# Altium footprint library Senior-Design-Custom.PcbLib: 58 footprints (part 1 of 4)
Each footprint in its own frame and in the unit in brackets; x right, y up, seen from the top. Pads: shape width x height; smd on the part's side, far side on the other; paste and mask are expansions set on the pad; w line width, h text height; cw(c..) or ccw(c..) is an arc to the next point about the centre after c.
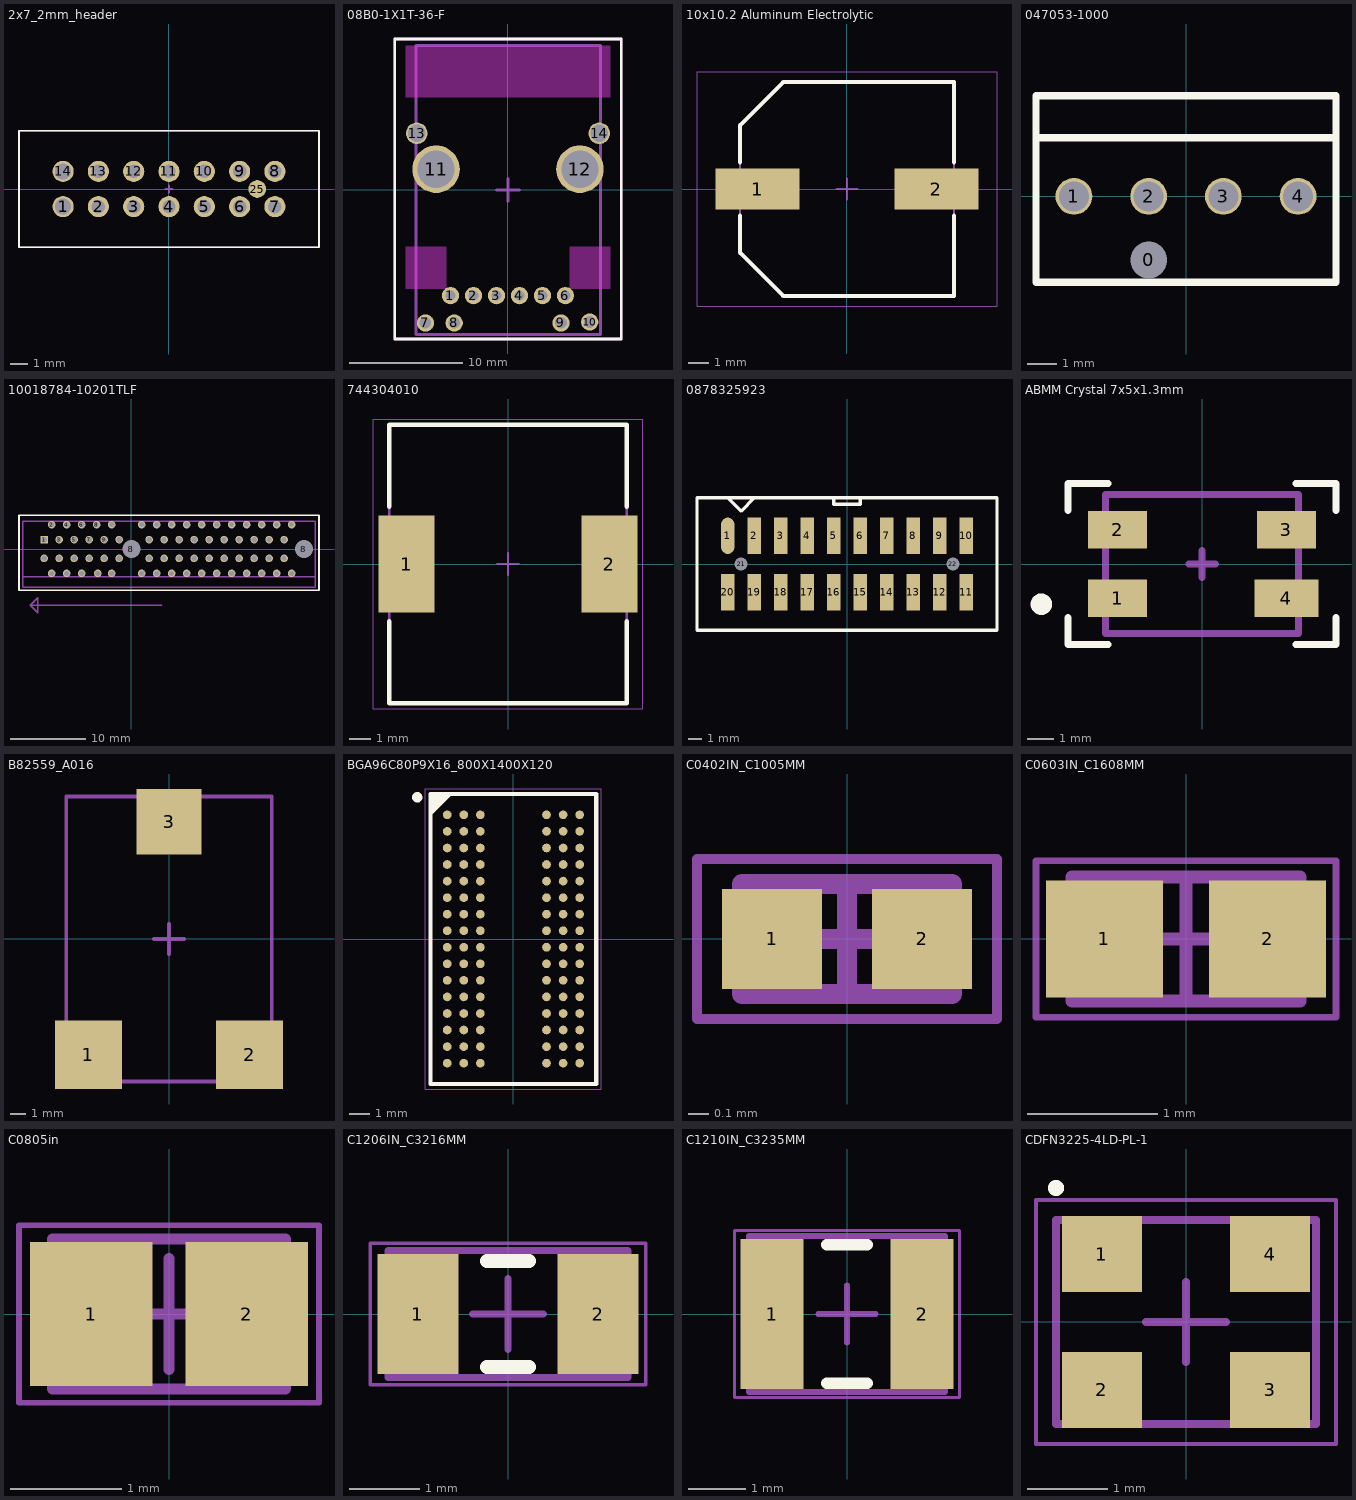
[diagram p0: the footprints below, top view; thin cyan lines are the x and y axes]

## 2x7_2mm_header [mm] "2 by 7, 2mm pitch 14 pin header"
pads (15):
  round 1.2 hole 0.9: 1(-6,-1) 14(-6,1)
  round 1.2 hole 0.762: 2(-4,-1) 3(-2,-1) 4(0,-1) 5(2,-1) 6(4,-1) 7(6,-1) 8(6,1) 9(4,1) 10(2,1) 11(0,1) 12(-2,1) 13(-4,1)
  round 1 all layers, no hole paste-5 mask-5: 25(5,0)
Top Overlay:
  lines w0.1: -8.5,-3.3 8.5,-3.3 8.5,3.3 -8.5,3.3 -8.5,-3.3
Mechanical 1:
  lines w0.1: -8.5,-3.3 8.5,-3.3 8.5,3.3 -8.5,3.3 -8.5,-3.3
Mechanical 15:
  lines w0.1: -0.2,0 0.2,0 ; 0,-0.2 0,0.2 ; -8.5,-3.3 8.5,-3.3 8.5,3.3 -8.5,3.3 -8.5,-3.3
3D body "878311411.stp": height 6.35, standoff -3.55, extent -8.325,-3.15 8.325,3.15

## 08B0-1X1T-36-F [mm] "100Base-T RJ45 ethernet jack"
pads (14):
  round 1.524 hole 0.89: 1(-5.08,-9.335) 2(-3.05,-9.335) 3(-1.02,-9.335) 4(1.01,-9.335) 5(3.04,-9.335) 6(5.07,-9.335)
  round 1.524 hole 1.02: 7(-7.29,-11.745) 8(-4.75,-11.745) 9(4.68,-11.745) 10(7.22,-11.665)
  round 4.2 hole 3.28: 11(-6.35,1.835) 12(6.35,1.835)
  round 1.9 hole 1.57: 13(-8.06,5.005) 14(8.06,5.005)
Top Layer keep-out:
  region: 9.015,12.755 -9.015,12.755 -9.015,8.185 9.015,8.185
  region: 5.46,-5.025 9.015,-5.025 9.015,-8.705 5.46,-8.705
  region: -9.015,-5.025 -5.46,-5.025 -5.46,-8.705 -9.015,-8.705
Top Overlay:
  lines w0.254: -10,-13.165 -10,13.335 10,13.335 10,-13.165 -10,-13.165
Mechanical 1:
  lines w0.254: -8.115,-12.765 8.155,-12.765 8.155,12.765 -8.115,12.765 -8.115,-12.765
Mechanical 15:
  lines w0.254: -1,0 1,0 ; 0,-1 0,1 ; -10,-13.165 10,-13.165 10,13.335 -10,13.335 -10,-13.165

## 10x10.2 Aluminum Electrolytic [mm] "Aluminum Electrolytic Capacitor, Body 10.25x10.25x10.80mm, IPC Medium Density"
height 10.8
pads (2):
  rect 4.1x2 smd: 1(-4.35,0) 2(4.35,0)
Top Overlay:
  lines w0.2: -5.2,-1.3 -5.2,-3.1 -3.1,-5.2 5.2,-5.2 5.2,-1.3 ; -5.2,1.3 -5.2,3.1 -3.1,5.2 5.2,5.2 5.2,1.3
Mechanical 13:
  lines w0.1: -5.2,-3.1 -5.2,3.1 -3.1,5.2 5.2,5.2 5.2,-5.2 -3.1,-5.2 -5.2,-3.1
Mechanical 15:
  lines w0.05: -7.3,-5.7 7.3,-5.7 7.3,5.7 -7.3,5.7 -7.3,-5.7
  lines w0.1: -0.5,0 0.5,0 ; 0,-0.5 0,0.5
3D body "10x10.2 Aluminum Electrolytic.step": height 10.8, standoff 0, extent -6,-5.2 6,5.2

## 047053-1000 [mm] "4 pin header for PC fans"
pads (5):
  round 1 hole 1.25: 0(-1.27,-2.16)
  round 1.25 hole 1.02: 1(-3.81,0) 2(-1.27,0) 3(1.27,0) 4(3.81,0)
Top Overlay:
  lines w0.254: -5.1,2 5.1,2 ; -5.1,-2.92 5.1,-2.92 5.1,2.92 5.1,3.42 2.55,3.42 -2.55,3.42 -5.1,3.42 -5.1,2.92 -5.1,-2.92
3D body "470531000.stp": height 11, standoff -2.5, extent -5.1,-2.54 5.1,3.3

## 10018784-10201TLF [mm] "PCIe 4x"
pads (66):
  rect 1x1 hole 0.7: 1(-11.65,1.25)
  round 1 hole 0.7: 2(-10.65,3.25) 3(-9.65,1.25) 4(-8.65,3.25) 5(-7.65,1.25) 6(-6.65,3.25) 7(-5.65,1.25) 8(-4.65,3.25) 9(-3.65,1.25) 10(-2.65,3.25) 11(-1.65,1.25) 12(1.35,3.25) 13(2.35,1.25) 14(3.35,3.25) 15(4.35,1.25) 16(5.35,3.25) 17(6.35,1.25) 18(7.35,3.25) 19(8.35,1.25) 20(9.35,3.25) 21(10.35,1.25) 22(11.35,3.25) 23(12.35,1.25) 24(13.35,3.25) 25(14.35,1.25) 26(15.35,3.25) 27(16.35,1.25) 28(17.35,3.25) 29(18.35,1.25) 30(19.35,3.25) 31(20.35,1.25) 32(21.35,3.25) 33(21.35,-3.25) 34(20.35,-1.25) 35(19.35,-3.25) 36(18.35,-1.25) 37(17.35,-3.25) 38(16.35,-1.25) 39(15.35,-3.25) 40(14.35,-1.25) 41(13.35,-3.25) 42(12.35,-1.25) 43(11.35,-3.25) 44(10.35,-1.25) 45(9.35,-3.25) 46(8.35,-1.25) 47(7.35,-3.25) 48(6.35,-1.25) 49(5.35,-3.25) 50(4.35,-1.25) 51(3.35,-3.25) 52(2.35,-1.25) 53(1.35,-3.25) 54(-1.65,-1.25) 55(-2.65,-3.25) 56(-3.65,-1.25) 57(-4.5,-3.25) 58(-5.65,-1.25) 59(-6.65,-3.25) 60(-7.65,-1.25) 61(-8.65,-3.25) 62(-9.65,-1.25) 63(-10.65,-3.25) 64(-11.65,-1.25)
  round 1.524 hole 2.35: 8(0,0) 8(23,0)
Top Overlay:
  lines w0.254: -15,-5.5 -15,4.5 25,4.5 25,4 25,-5.5 -14.5,-5.5 -15,-5.5
Mechanical 15:
  lines w0.254: -14.5,-3.7 24.5,-3.7 ; 4,-7.5 -13.5,-7.5 ; -13.5,-7.5 -12.5,-6.5 -12.5,-8.5 -13.5,-7.5 ; -14.5,-5.1 -14.5,3.7 24.5,3.7 24.5,-5.1 -14.5,-5.1
  text "I/O PANEL DIRECTION" at -10,-9 h1.5
3D body "10018784-10201TLF.stp": height 11, standoff -4.4, extent -14.5,-5.1 24.5,3.7

## 744304010 [mm] "Molded Inductor, 2-Leads, Body 10.00x11.80mm, IPC Medium Density"
height 4
pads (2):
  rect 2.6x4.5 smd: 1(-4.7,0) 2(4.7,0)
Top Overlay:
  lines w0.2: -5.5,-2.65 -5.5,-6.45 5.5,-6.45 5.5,-2.65 ; -5.5,2.65 -5.5,6.45 5.5,6.45 5.5,2.65
Mechanical 13:
  lines w0.1: -5.5,-6.4 -5.5,6.4 5.5,6.4 5.5,-6.4 -5.5,-6.4
Mechanical 15:
  lines w0.05: -6.25,-6.7 -6.25,6.7 6.25,6.7 6.25,-6.7 -6.25,-6.7
  lines w0.1: -0.5,0 0.5,0 ; 0,-0.5 0,0.5
3D body "744304010.step": height 4, standoff 0, extent -5.72,-6.4 5.72,6.4

## 0878325923 [mm] "SMD 10x2 2mm pitch header"
pads (22):
  oval 1x2.75 smd: 1(-9,2.13)
  rect 1x2.75 smd: 2(-7,2.13) 3(-5,2.13) 4(-3,2.13) 5(-1,2.13) 6(1,2.13) 7(3,2.13) 8(5,2.13) 9(7,2.13) 10(9,2.13) 11(9,-2.13) 12(7,-2.13) 13(5,-2.13) 14(3,-2.13) 15(1,-2.13) 16(-1,-2.13) 17(-3,-2.13) 18(-5,-2.13) 19(-7,-2.13) 20(-9,-2.13)
  round 0.8 hole 1: 21(-8,0) 22(8,0)
Top Overlay:
  lines w0.254: -9,5 -8,4 ; -7,5 -8,4 ; -1,5 -1,4.5 1,4.5 1,5 ; -8,4 -8,4 ; -11.325,-5 11.325,-5 11.325,5 -11.325,5 -11.325,-5
3D body "878325923.stp": height 9.05, standoff -0.75, extent -11.325,-3.175 11.325,3.175

## ABMM Crystal 7x5x1.3mm [mm]
pads (4):
  rect 2.2x1.4 smd: 1(-3.15,-1.27) 2(-3.15,1.27) 3(3.15,1.27)
  rect 2.4x1.4 smd: 4(3.15,-1.27)
Top Overlay:
  circle w0.4: c-6,-1.5 r0.2
  lines w0.254: -5,-2 -5,-3 -3.5,-3 ; -5,2 -5,3 -3.5,3 ; 3.5,-3 5,-3 5,-2 ; 3.5,3 5,3 5,2
Mechanical 15:
  lines w0.254: -0.5,0 0.5,0 ; 0,-0.5 0,0.5 ; -3.6,-2.6 3.6,-2.6 3.6,2.6 -3.6,2.6 -3.6,-2.6
3D body "ABMM.STEP": height 1.3, standoff 0, extent -3.594,-2.5 3.594,2.707

## B82559_A016 [mm] "Shielded inductor"
height 9.95
pads (3):
  rect 4.4x4.5 smd: 1(-5.3,-7.6) 2(5.3,-7.6)
  rect 4.3x4.3 smd: 3(0,7.7)
Mechanical 15:
  lines w0.254: -1,0 1,0 ; 0,-1 0,1 ; -6.75,-9.35 6.75,-9.35 6.75,9.35 -6.75,9.35 -6.75,-9.35

## BGA96C80P9X16_800X1400X120 [mm] "BGA, 96-Leads, Body 8.00x14.00mmx1.20mm, Pitch 0.80mm"
height 1.2
pads (96):
  round 0.42 smd: A1(-3.2,6) A2(-2.4,6) A3(-1.6,6) A7(1.6,6) A8(2.4,6) A9(3.2,6) B1(-3.2,5.2) B2(-2.4,5.2) B3(-1.6,5.2) B7(1.6,5.2) B8(2.4,5.2) B9(3.2,5.2) C1(-3.2,4.4) C2(-2.4,4.4) C3(-1.6,4.4) C7(1.6,4.4) C8(2.4,4.4) C9(3.2,4.4) D1(-3.2,3.6) D2(-2.4,3.6) D3(-1.6,3.6) D7(1.6,3.6) D8(2.4,3.6) D9(3.2,3.6) E1(-3.2,2.8) E2(-2.4,2.8) E3(-1.6,2.8) E7(1.6,2.8) E8(2.4,2.8) E9(3.2,2.8) F1(-3.2,2) F2(-2.4,2) F3(-1.6,2) F7(1.6,2) F8(2.4,2) F9(3.2,2) G1(-3.2,1.2) G2(-2.4,1.2) G3(-1.6,1.2) G7(1.6,1.2) G8(2.4,1.2) G9(3.2,1.2) H1(-3.2,0.4) H2(-2.4,0.4) H3(-1.6,0.4) H7(1.6,0.4) H8(2.4,0.4) H9(3.2,0.4) J1(-3.2,-0.4) J2(-2.4,-0.4) J3(-1.6,-0.4) J7(1.6,-0.4) J8(2.4,-0.4) J9(3.2,-0.4) K1(-3.2,-1.2) K2(-2.4,-1.2) K3(-1.6,-1.2) K7(1.6,-1.2) K8(2.4,-1.2) K9(3.2,-1.2) L1(-3.2,-2) L2(-2.4,-2) L3(-1.6,-2) L7(1.6,-2) L8(2.4,-2) L9(3.2,-2) M1(-3.2,-2.8) M2(-2.4,-2.8) M3(-1.6,-2.8) M7(1.6,-2.8) M8(2.4,-2.8) M9(3.2,-2.8) N1(-3.2,-3.6) N2(-2.4,-3.6) N3(-1.6,-3.6) N7(1.6,-3.6) N8(2.4,-3.6) N9(3.2,-3.6) P1(-3.2,-4.4) P2(-2.4,-4.4) P3(-1.6,-4.4) P7(1.6,-4.4) P8(2.4,-4.4) P9(3.2,-4.4) R1(-3.2,-5.2) R2(-2.4,-5.2) R3(-1.6,-5.2) R7(1.6,-5.2) R8(2.4,-5.2) R9(3.2,-5.2) T1(-3.2,-6) T2(-2.4,-6) T3(-1.6,-6) T7(1.6,-6) T8(2.4,-6) T9(3.2,-6)
Top Overlay:
  circle w0.25: c-4.65,6.85 r0.125
  region: -3.063,7 -4,6.063 -4,7
  lines w0.2: -4,6.063 -3.063,7 ; -4,-7 4,-7 4,7 -4,7 -4,-7
Mechanical 13:
  lines w0.1: -4,-7 4,-7 4,7 -4,7 -4,-7
Mechanical 15:
  lines w0.05: -4.25,-7.25 4.25,-7.25 4.25,7.25 -4.25,7.25 -4.25,-7.25
3D body: height 1.2, standoff 0.34, extent -4,-7 4,7

## C0402IN_C1005MM [mm]
height 0.55
pads (2):
  rect 0.5x0.5 smd: 1(-0.375,0) 2(0.375,0)
Mechanical 13:
  lines w0.1: -0.525,-0.275 0.525,-0.275 0.525,0.275 -0.525,0.275 -0.525,-0.275
Mechanical 15:
  lines w0.05: -0.75,-0.4 0.75,-0.4 0.75,0.4 -0.75,0.4 -0.75,-0.4
  lines w0.1: -0.275,0 0.275,0 ; 0,-0.275 0,0.275
3D body: height 0.55, standoff 0, extent 0.295,-0.275 0.525,0.275
3D body: height 0.55, standoff 0, extent -0.525,-0.275 -0.295,0.275
3D body: height 0.55, standoff 0, extent -0.295,-0.275 0.295,0.275

## C0603IN_C1608MM [mm]
height 0.95
pads (2):
  rect 0.9x0.9 smd: 1(-0.625,0) 2(0.625,0)
Mechanical 13:
  lines w0.1: -0.875,-0.475 -0.875,0.475 0.875,0.475 0.875,-0.475 -0.875,-0.475
Mechanical 15:
  lines w0.05: -1.15,-0.6 -1.15,0.6 1.15,0.6 1.15,-0.6 -1.15,-0.6
  lines w0.1: -0.475,0 0.475,0 ; 0,-0.475 0,0.475
3D body: height 0.95, standoff 0, extent -0.525,-0.475 0.525,0.475
3D body: height 0.95, standoff 0, extent -0.875,-0.475 -0.525,0.475
3D body: height 0.95, standoff 0, extent 0.525,-0.475 0.875,0.475

## C0805in [mm]
height 0.75
pads (2):
  rect 1.1x1.3 smd: 1(-0.7,0) 2(0.7,0)
Mechanical 13:
  lines w0.1: -1.05,-0.675 -1.05,0.675 1.05,0.675 1.05,-0.675 -1.05,-0.675
Mechanical 15:
  lines w0.05: -1.35,-0.8 -1.35,0.8 1.35,0.8 1.35,-0.8 -1.35,-0.8
  lines w0.1: -0.5,0 0.5,0 ; 0,-0.5 0,0.5
3D body "C0805in.step": height 0.75, standoff 0, extent -1.05,-0.675 1.05,0.675

## C1206IN_C3216MM [mm]
height 1.8
pads (2):
  rect 1.15x1.7 smd: 1(-1.275,0) 2(1.275,0)
Top Overlay:
  lines w0.2: -0.3,-0.75 0.3,-0.75 ; -0.3,0.75 0.3,0.75
Mechanical 13:
  lines w0.1: -1.7,-0.9 1.7,-0.9 1.7,0.9 -1.7,0.9 -1.7,-0.9
Mechanical 15:
  lines w0.05: -1.95,-1 1.95,-1 1.95,1 -1.95,1 -1.95,-1
  lines w0.1: -0.5,0 0.5,0 ; 0,-0.5 0,0.5
3D body: height 1.8, standoff 0, extent 1.15,-0.9 1.7,0.9
3D body: height 1.8, standoff 0, extent -1.7,-0.9 -1.15,0.9
3D body: height 1.8, standoff 0, extent -1.15,-0.9 1.15,0.9

## C1210IN_C3235MM [mm] "C1210IN_C3235MM 2.3mm height"
height 2.3
pads (2):
  rect 1.1x2.6 smd: 1(-1.3,0) 2(1.3,0)
Top Overlay:
  lines w0.2: -0.35,-1.2 0.35,-1.2 ; -0.35,1.2 0.35,1.2
Mechanical 13:
  lines w0.1: -1.7,-1.35 1.7,-1.35 1.7,1.35 -1.7,1.35 -1.7,-1.35
Mechanical 15:
  lines w0.05: -1.95,-1.45 1.95,-1.45 1.95,1.45 -1.95,1.45 -1.95,-1.45
  lines w0.1: -0.5,0 0.5,0 ; 0,-0.5 0,0.5
3D body "C1210in (3235mm) 2.3mm height.step": height 2.3, standoff 0, extent -1.7,-1.35 1.7,1.35

## CDFN3225-4LD-PL-1 [mm] "DFN, 4-Leads, Body 2.50x3.20mm, Pitch 2.10mm, IPC Medium Density"
height 0.9
pads (4):
  rect 1x0.95 smd: 1(-1.05,0.85) 2(-1.05,-0.85) 3(1.05,-0.85) 4(1.05,0.85)
Top Overlay:
  circle w0.1: c-1.625,1.675 r0.05
Mechanical 13:
  lines w0.1: -1.625,-1.275 1.625,-1.275 1.625,1.275 -1.625,1.275 -1.625,-1.275
Mechanical 15:
  lines w0.05: -1.875,-1.525 1.875,-1.525 1.875,1.525 -1.875,1.525 -1.875,-1.525
  lines w0.1: -0.5,0 0.5,0 ; 0,-0.5 0,0.5
3D body "CDFN3225-4LD-PL-1.step": height 0.9, standoff 0, extent -1.637,-1.3 1.837,1.3